# Altium footprint library Switches.PcbLib: 2 footprints
Each footprint in its own frame and in the unit in brackets; x right, y up, seen from the top. Pads: shape width x height; smd on the part's side, far side on the other; paste and mask are expansions set on the pad; w line width, h text height; cw(c..) or ccw(c..) is an arc to the next point about the centre after c.
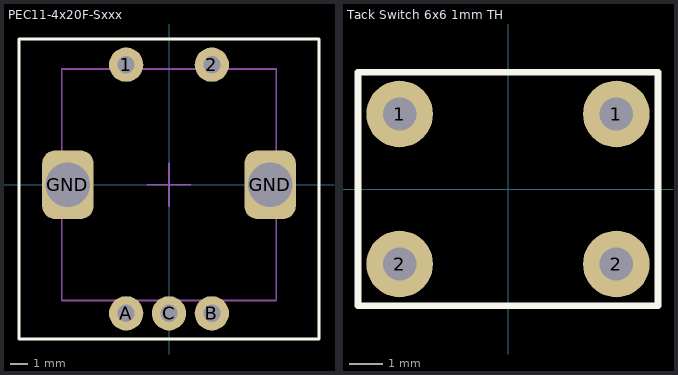
[diagram p0: the footprints below, top view; thin cyan lines are the x and y axes]

## PEC11-4x20F-Sxxx [mm] "Incrmental Encoder with momentary puch switch"
height 30
pads (7):
  round 2 hole 1: 1(-2.5,7) 2(2.5,7) A(-2.5,-7.5) B(2.5,-7.5) C(0,-7.5)
  rrect50% 3x4 hole 2.6: GND(-5.9,0) GND(5.9,0)
Top Overlay:
  lines w0.2: -8.75,-9 -8.75,8.5 8.75,8.5 8.75,-9 -8.75,-9
Mechanical 13:
  lines w0.1: -6.25,-6.75 -6.25,6.75 6.25,6.75 6.25,-6.75 -6.25,-6.75
Mechanical 15:
  lines w0.05: -8.75,-9 8.75,-9 8.75,8.5 -8.75,8.5 -8.75,-9
  lines w0.1: -1.25,0 1.25,0 ; 0,-1.25 0,1.25
3D body "Bourns PEC11-4x20F-Sxxx.STEP": height 26.6, standoff -3.6, extent -7,-7.7 7,7.2

## Tack Switch 6x6 1mm TH [mm] "Tack Switch 6x6mm, 1mm button height TH"
height 5
pads (4):
  round 2 hole 1: 1(-3.25,2.25) 1(3.25,2.25) 2(-3.25,-2.25) 2(3.25,-2.25)
Top Overlay:
  lines w0.2: -4.5,-3.5 4.5,-3.5 4.5,3.5 -4.5,3.5 -4.5,-3.5
3D body "Tack Switch 6x6 1mm.STEP": height 4.41, standoff -3.49, extent -3.983,-3 3.983,3